# Altium schematic symbol library TPS543021DRLR.SchLib: 1 symbol
Pins are listed as number, name and electrical type; pins without a type are passive.

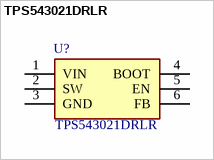
[diagram p0: symbol TPS543021DRLR]

## TPS543021DRLR
designator U?
Switching Voltage Regulators 4.5V to 30V input, 3A, 400kHz synchronous buck converter; Manufacturer_Name: Texas Instruments; Geometry.Height: 0.6mm; Mouser Part Number: *; Mouser Price/Stock: *; Manufacturer_Part_Number: TPS543021DRLR; Datasheet Link: https://www.ti.com/lit/ds/symlink/tps543021.pdf?ts=1769604993373&ref_url=https%253A%252F%252Fwww.ti.com%252Fproduct%252FTPS543021
footprint SOTFL50P160X60-6N
pins: 1 VIN, 2 SW, 3 GND, 4 BOOT, 5 EN, 6 FB